# Altium schematic symbol library capacitor.SchLib: 16 symbols
Pins are listed as number, name and electrical type; pins without a type are passive.

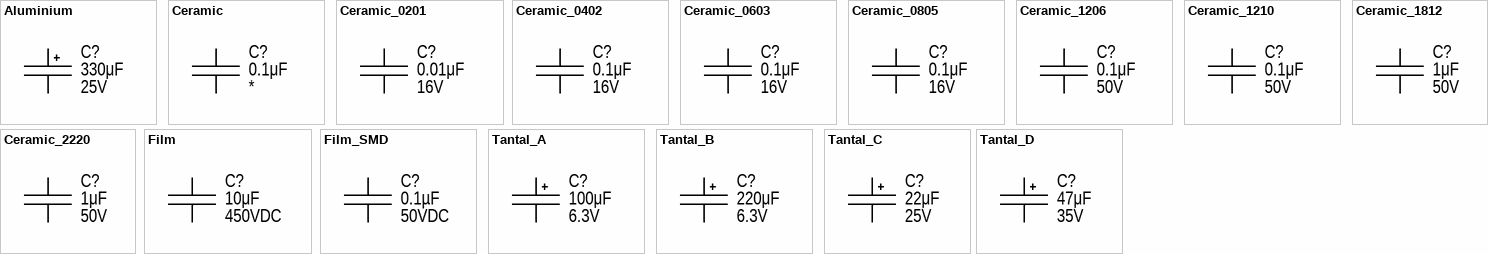
[diagram p0: symbols Aluminium to Tantal_D]

## Aluminium
designator C?  value 330μF  Voltage: 25V
Manufacturer: Wurth; PartNumber: 860080475013; ValueManufacturerPartNumber: Aluminium capacitor, 330μF, 25V, ±20%, 54mOhm, 14x10x5 mm, -55...+105°C; TypeCapacitor: Aluminium capacitor; Tolerance: ±20%; Impedance: 54mOhm; Package: 14x10x5 mm; HelpURL: https://www.digikey.com/product-detail/en/wurth-electronics-inc/860080475013/732-9029-1-ND/5728972; Temperature: -55...+105°C
footprint CAP: D5C2H11
footprint CAP: D6.3C2.5H11
footprint CAP: D6.3C2.5H16
footprint CAP: D8C3.5H12
footprint CAP: D10C5H12.5
footprint CAP: D10C5H20
footprint CAP: D10C5H16
footprint CAP: D13C5H20
footprint CAP: D16C7.5H25
footprint CAP: D16C7.5H31.5
footprint CAP: D18C7.5H25
footprint CAP: D18C7.5H40
footprint CAP: D22C10H25
footprint CAP: D25C10H50
footprint CAP: D30C10H37
footprint CAP: D30C10.5H47
footprint CAP: D35C10H40
footprint CAP: D35C10.5H50
footprint CAP: SMD D6.3A6.6H7.7
footprint CAP: D18C7.5H32
footprint CAP: D18C7.5H32 (H)
pins: 1, 2

## Ceramic
designator C?  value 0.1μF  (hidden comment: *)
TypeCapacitor: Ceramic capacitor; Manufacturer: *; PartNumber: *; Package: *; HelpURL: *; ValueManufacturerPartNumber: *; Temperature: *; Tolerance: *; TypeDielectric: *; Voltage: *
footprint CAP: HOLE 5mm
pins: 1, 2

## Ceramic_0201
designator C?  value 0.01μF  Voltage: 16V
Manufacturer: Yageo; PartNumber: CC0201KRX7R7BB103; ValueManufacturerPartNumber: Ceramic capacitor, 0.01μF, X7R, ±10%, 16V, 0201, -55...+125°C; TypeCapacitor: Ceramic capacitor; Tolerance: ±10%; TypeDielectric: X7R; Package: 0201; HelpURL: https://www.digikey.com/product-detail/en/yageo/CC0201KRX7R7BB103/311-1404-1-ND/2833710; Temperature: -55...+125°C
footprint CAP: 0201
pins: 1, 2

## Ceramic_0402
designator C?  value 0.1μF  Voltage: 16V
Manufacturer: Yageo; PartNumber: CC0402KRX7R7BB104; ValueManufacturerPartNumber: Ceramic capacitor, 0.1μF, X7R, ±10%, 16V, 0402, -55...+125°C; TypeCapacitor: Ceramic capacitor; Tolerance: ±10%; TypeDielectric: X7R; Package: 0402; HelpURL: https://www.digikey.com/product-detail/en/yageo/CC0402KRX7R7BB104/311-1338-1-ND/2103122; Temperature: -55...+125°C
footprint CAP: 0402
pins: 1, 2

## Ceramic_0603
designator C?  value 0.1μF  Voltage: 16V
Manufacturer: Yageo; PartNumber: CC0603KRX7R7BB104; ValueManufacturerPartNumber: Ceramic capacitor, 0.1μF, X7R, ±10%, 16V, 0603, -55...+125°C; TypeCapacitor: Ceramic capacitor; Tolerance: ±10%; TypeDielectric: X7R; Package: 0603; HelpURL: https://www.digikey.com/product-detail/en/yageo/CC0603KRX7R7BB104/311-1088-1-ND/302998; Temperature: -55...+125°C
footprint CAP: 0603
pins: 1, 2

## Ceramic_0805
designator C?  value 0.1μF  Voltage: 16V
Manufacturer: Yageo; PartNumber: CC0805KRX7R7BB104; ValueManufacturerPartNumber: Ceramic capacitor, 0.1μF, X7R, ±10%, 16V, 0805, -55...+125°C; TypeCapacitor: Ceramic capacitor; Tolerance: ±10%; TypeDielectric: X7R; Package: 0805; HelpURL: https://www.digikey.com/product-detail/en/yageo/CC0805KRX7R7BB104/311-1142-1-ND/303052; Temperature: -55...+125°C
footprint CAP: 0805
pins: 1, 2

## Ceramic_1206
designator C?  value 0.1μF  Voltage: 50V
Manufacturer: Yageo; PartNumber: CC1206KRX7R9BB104; ValueManufacturerPartNumber: Ceramic capacitor, 0.1μF, X7R, ±10%, 50V, 1206, -55...+125°C; TypeCapacitor: Ceramic capacitor; Tolerance: ±10%; TypeDielectric: X7R; Package: 1206; HelpURL: https://www.digikey.com/product-detail/en/yageo/CC1206KRX7R9BB104/311-1179-1-ND/303089; Temperature: -55...+125°C
footprint CAP: 1206
pins: 1, 2

## Ceramic_1210
designator C?  value 0.1μF  Voltage: 50V
Manufacturer: Yageo; PartNumber: CC1210KKX7R9BB104; ValueManufacturerPartNumber: Ceramic capacitor, 0.1μF, X7R, ±10%, 50V, 1210, -55...+125°C; TypeCapacitor: Ceramic capacitor; Tolerance: ±10%; TypeDielectric: X7R; Package: 1210; HelpURL: https://www.digikey.com/product-detail/en/yageo/CC1210KKX7R9BB104/311-4522-1-ND/8025611; Temperature: -55...+125°C
footprint CAP: 1210
pins: 1, 2

## Ceramic_1812
designator C?  value 1μF  Voltage: 50V
Manufacturer: Yageo; PartNumber: CC1812KKX7R9BB105; ValueManufacturerPartNumber: Ceramic capacitor, 1μF, X7R, ±10%, 50V, 1812, -55...+125°C; TypeCapacitor: Ceramic capacitor; Tolerance: ±10%; TypeDielectric: X7R; Package: 1812; HelpURL: https://www.digikey.com/product-detail/en/yageo/CC1812KKX7R9BB105/311-2068-1-ND/5195970; Temperature: -55...+125°C
footprint CAP: 1812
pins: 1, 2

## Ceramic_2220
designator C?  value 1μF  Voltage: 50V
Manufacturer: Yageo; PartNumber: CC2220KKX7R9BB105; ValueManufacturerPartNumber: Ceramic capacitor, 1μF, X7R, ±10%, 50V, 2220, -55...+125°C; TypeCapacitor: Ceramic capacitor; Tolerance: ±10%; TypeDielectric: X7R; Package: 2220; HelpURL: https://www.digikey.com/product-detail/en/yageo/CC2220KKX7R9BB105/311-2069-1-ND/5195971; Temperature: -55...+125°C
footprint CAP: 2220
pins: 1, 2

## Film
designator C?  value 10μF  Voltage: 450VDC
Manufacturer: Epcos; PartNumber: B32774D4106K000; ValueManufacturerPartNumber: Film capacitor, 10μF, 450VDC, ±10%, 10.9mOhm, 31.5x15 mm, -40...+105°C; TypeCapacitor: Film capacitor; Tolerance: ±10%; Impedance: 10.9mOhm; Package: 31.5x15 mm; HelpURL: https://www.digikey.com/products/en/capacitors/film-capacitors/62?k=&pkeyword=&sv=0&pv2097=1958&sf=0&FV=fffc01ef%2C1f140000%2Cffe0003e%2Cffec6366&quantity=1&ColumnSort=1000011&page=1&stock=1&pageSize=25; Temperature: -40...+105°C
footprint CAP: AY2102M29Y5US63L7
footprint CAP: B32021
footprint CAP: B32521
footprint CAP: B32522
footprint CAP: B32653A
footprint CAP: B32654
footprint CAP: B32674
footprint CAP: B32676
footprint CAP: B32774D (w=15mm)
footprint CAP: B32774D (w=22mm)
footprint CAP: B32923
footprint CAP: MKP1848S
footprint CAP: VY2
footprint CAP: PHE845VD5220MR30L2
footprint CAP: B32673
footprint CAP: B32922
pins: 1, 2

## Film_SMD
designator C?  value 0.1µF  Voltage: 50VDC
Manufacturer: Panasonic Electronic Components; PartNumber: ECH-U1H104JX9; ValueManufacturerPartNumber: Film capacitor, 0.1µF, 50VDC, ±5%, *, 1913, -55...+125°C; TypeCapacitor: Film capacitor; Tolerance: ±5%; Package: 1913; HelpURL: https://www.digikey.com/product-detail/en/panasonic-electronic-components/ECH-U1H104JX9/PCF1561CT-ND/1630924; Temperature: -55...+125°C; Impedance: *
footprint CAP: ECHU(X) D (2416)
footprint CAP: ECHU(X) E (1913)
footprint CAP: ECHU(X) G (1210)
footprint CAP: ECHU(X) H (1206)
footprint CAP: ECHU(X) J (0805)
footprint CAP: ECHU(X) K (0603)
pins: 1, 2

## Tantal_A
designator C?  value 100μF  Voltage: 6.3V
Manufacturer: AVX; PartNumber: F930J107KAAAJ6; ValueManufacturerPartNumber: Tantalum capacitor, 100μF, 6.3V, ±10%, 2Ohm, case A (3216), -55...+125°C; Impedance: 2Ohm; Tolerance: ±10%; TypeDielectric: X7R; TypeCapacitor: Tantalum capacitor; Package: case A (3216); HelpURL: https://www.digikey.com/product-detail/en/avx-corporation/F930J107KAAAJ6/478-12404-1-ND/9645231; Temperature: -55...+125°C
footprint CAP: TANTAL-A
pins: 1, 2

## Tantal_B
designator C?  value 220μF  Voltage: 6.3V
Manufacturer: AVX; PartNumber: F930J227KBA; ValueManufacturerPartNumber: Tantalum capacitor, 220μF, 6.3V, ±10%, 1.2Ohm, case B (3528), -55...+125°C; Impedance: 1.2Ohm; Tolerance: ±10%; TypeDielectric: X7R; TypeCapacitor: Tantalum capacitor; Package: case B (3528); HelpURL: https://www.digikey.com/product-detail/en/avx-corporation/F930J227KBA/478-8166-1-ND/4005570; Temperature: -55...+125°C
footprint CAP: TANTAL-B
pins: 1, 2

## Tantal_C
designator C?  value 22μF  Voltage: 25V
Manufacturer: AVX; PartNumber: F931E226MCC; ValueManufacturerPartNumber: Tantalum capacitor, 22μF, 25V, ±10%, 1.1Ohm, case C (6032), -55...+125°C; Impedance: 1.1Ohm; Tolerance: ±10%; TypeDielectric: X7R; TypeCapacitor: Tantalum capacitor; Package: case C (6032); HelpURL: https://www.digikey.com/product-detail/en/avx-corporation/F931E226MCC/478-8314-1-ND/4006045; Temperature: -55...+125°C
footprint CAP: TANTAL-C
pins: 1, 2

## Tantal_D
designator C?  value 47μF  Voltage: 35V
Manufacturer: AVX; PartNumber: TAJD476M035RNJV; ValueManufacturerPartNumber: Tantalum capacitor, 47μF, 35V, ±20%, 900mOhm, case D (7343), -55...+125°C; Impedance: 900mOhm; Tolerance: ±20%; TypeDielectric: X7R; TypeCapacitor: Tantalum capacitor; Package: case D (7343); HelpURL: https://www.digikey.com/product-detail/en/avx-corporation/TAJD476M035RNJV/478-12122-1-ND/8605695; Temperature: -55...+125°C
footprint CAP: TANTAL-D
pins: 1, 2